# Altium footprint library TO92127P476H533-3.PcbLib: 1 footprints
Each footprint in its own frame and in the unit in brackets; x right, y up, seen from the top. Pads: shape width x height; smd on the part's side, far side on the other; paste and mask are expansions set on the pad; w line width, h text height; cw(c..) or ccw(c..) is an arc to the next point about the centre after c.
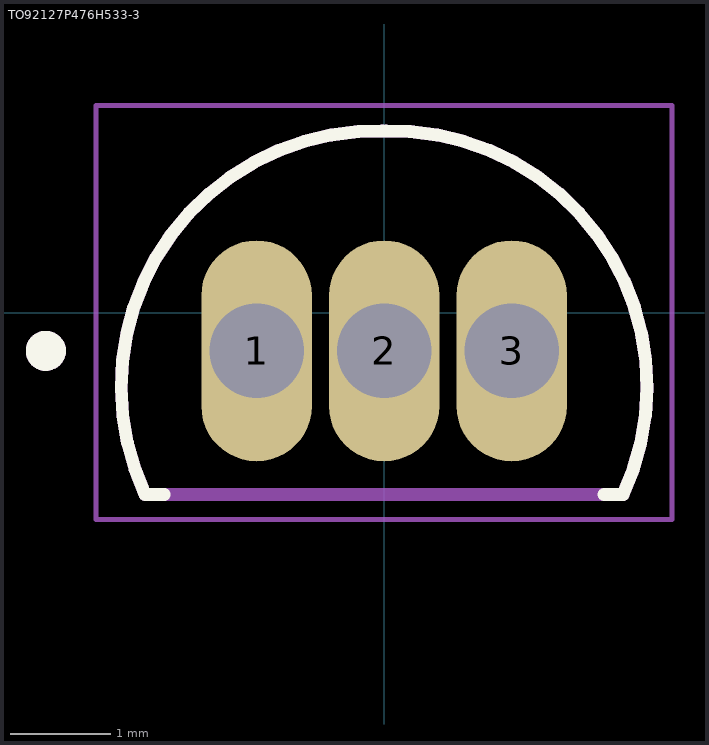
[diagram p0: the footprint, top view; thin cyan lines are the x and y axes]

## TO92127P476H533-3 [mm]
pads (3):
  oval 1.1x2.2 hole 0.94: 1(-1.27,-0.38) 2(0,-0.38) 3(1.27,-0.38)
Top Overlay:
  circle w0.2: c-3.368,-0.38 r0.1
  lines w0.127: -2.38,-1.81 -2.19,-1.81 ; -2.379,-1.812 cw(c-0.071,-0.735) 0.018,1.809 ; -0.018,1.809 cw(c0.071,-0.735) 2.379,-1.812 ; 2.19,-1.81 2.38,-1.81
Mechanical 13:
  circle w0.2: c-3.368,-0.38 r0.1
  lines w0.127: -2.38,-1.81 2.38,-1.81 ; -2.379,-1.812 cw(c-0.071,-0.735) 0.018,1.809 ; -0.018,1.809 cw(c0.071,-0.735) 2.379,-1.812
Mechanical 15:
  lines w0.05: -2.868,-2.06 -2.868,2.061 2.868,2.061 2.868,-2.06 -2.868,-2.06
3D body "step_temp.STEP": height 5.33, standoff -15.62, extent -2.38,-1.81 2.38,1.81